# Altium footprint library Vishay Roederstein Footprints.PcbLib: 150 footprints (part 5 of 10)
Each footprint in its own frame and in the unit in brackets; x right, y up, seen from the top. Pads: shape width x height; smd on the part's side, far side on the other; paste and mask are expansions set on the pad; w line width, h text height; cw(c..) or ccw(c..) is an arc to the next point about the centre after c.
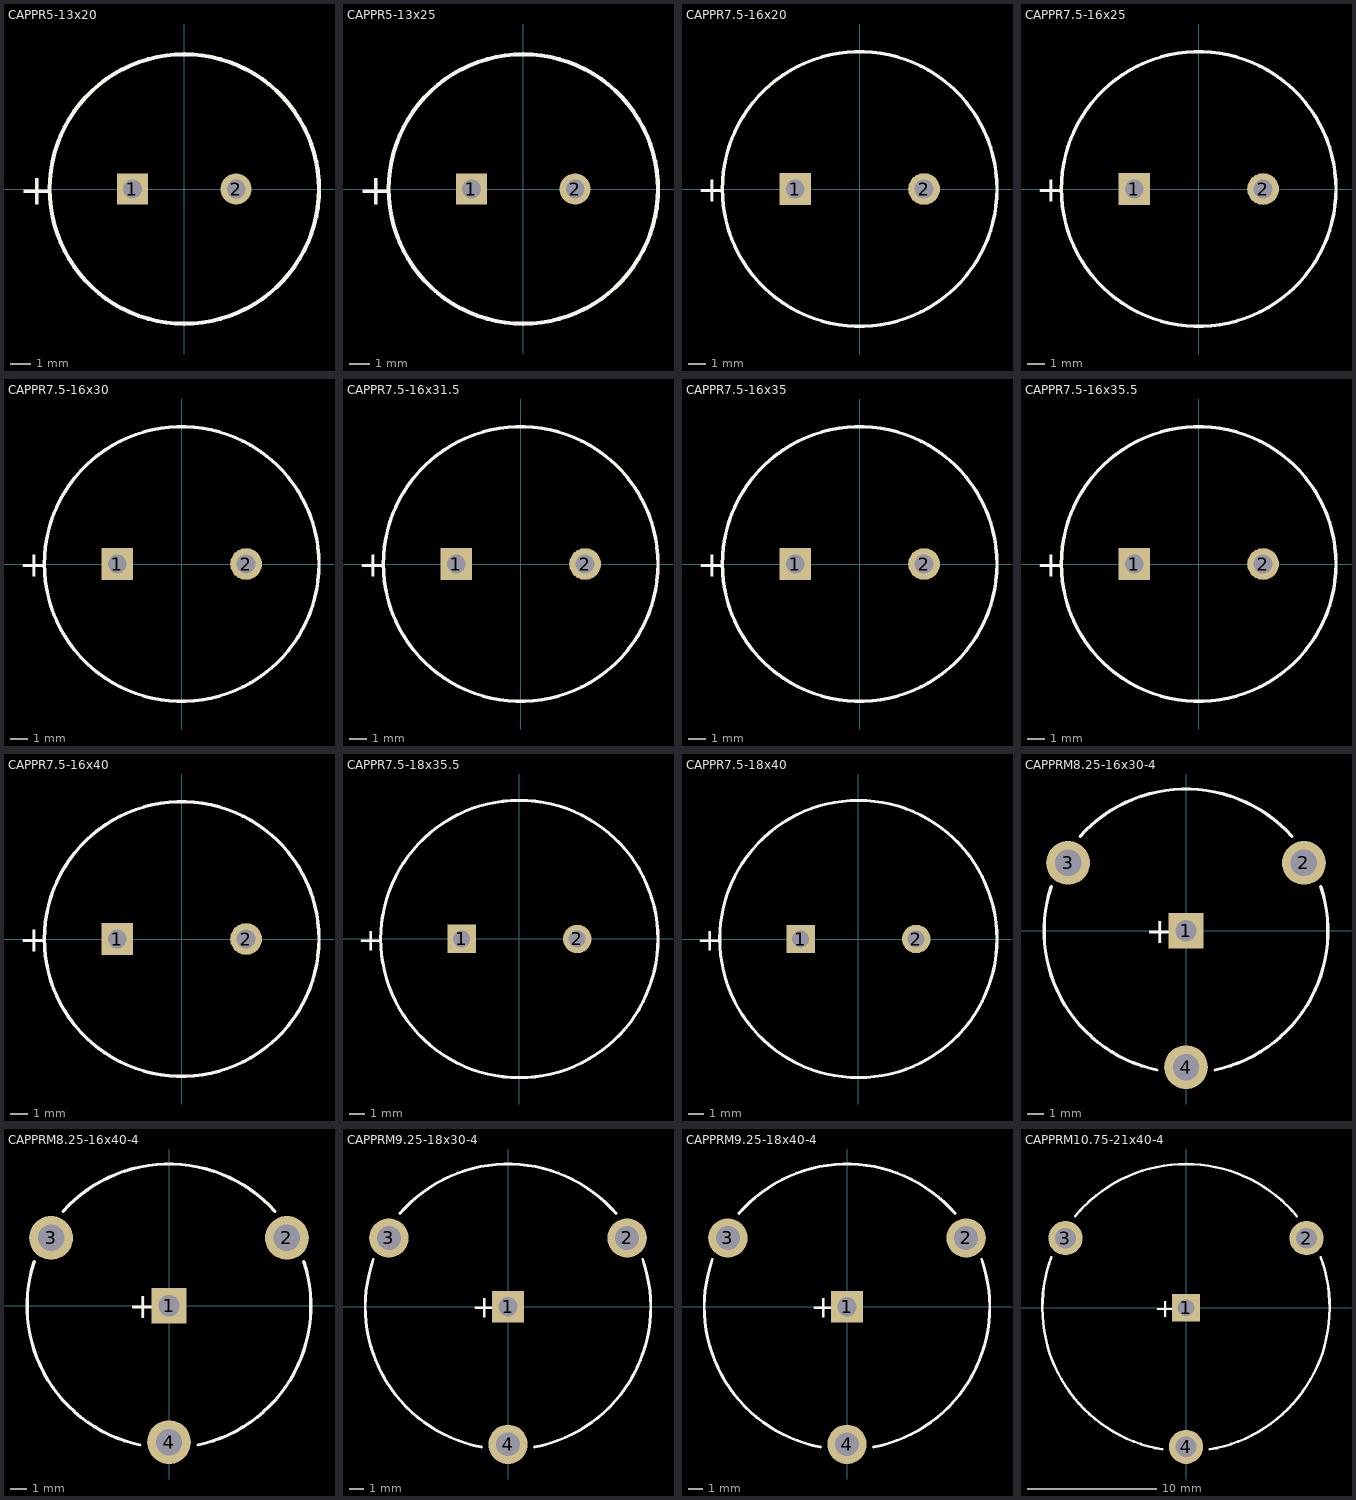
[diagram p4: the footprints below, top view; thin cyan lines are the x and y axes]

## CAPPR5-13x20 [mm] "Capacitor, Electrolytic, Radial; Body 13 x 20 mm (Dia.xH typ); Pin Spacing 5 mm (typ)"
height 22
pads (2):
  rect 1.5x1.5 hole 0.9: 1(-2.5,0)
  round 1.5 hole 0.9: 2(2.5,0)
Top Overlay:
  circle w0.2: c0,0 r6.5
  text "+" at -7.975,-0.75 h1.5

## CAPPR5-13x25 [mm] "Capacitor, Electrolytic, Radial; Body 13 x 25 mm (Dia.xH typ); Pin Spacing 5 mm (typ)"
height 27
pads (2):
  rect 1.5x1.5 hole 0.9: 1(-2.5,0)
  round 1.5 hole 0.9: 2(2.5,0)
Top Overlay:
  circle w0.2: c0,0 r6.5
  text "+" at -7.975,-0.75 h1.5

## CAPPR7.5-16x20 [mm] "Capacitor, Electrolytic, Radial; Body 16 x 20 mm (Dia.xH typ); Pin Spacing 7.5 mm (typ)"
height 21.5
pads (2):
  rect 1.85x1.85 hole 1.1: 1(-3.75,0)
  round 1.85 hole 1.1: 2(3.75,0)
Top Overlay:
  circle w0.2: c0,0 r8
  text "+" at -9.475,-0.75 h1.5

## CAPPR7.5-16x25 [mm] "Capacitor, Electrolytic, Radial; Body 16 x 25 mm (Dia.xH typ); Pin Spacing 7.5 mm (typ)"
height 27
pads (2):
  rect 1.85x1.85 hole 1.1: 1(-3.75,0)
  round 1.85 hole 1.1: 2(3.75,0)
Top Overlay:
  circle w0.2: c0,0 r8
  text "+" at -9.475,-0.75 h1.5

## CAPPR7.5-16x30 [mm] "Capacitor, Electrolytic, Radial; Body 16 x 30 mm (Dia.xH typ); Pin Spacing 7.5 mm (typ)"
height 31.5
pads (2):
  rect 1.85x1.85 hole 1.1: 1(-3.75,0)
  round 1.85 hole 1.1: 2(3.75,0)
Top Overlay:
  circle w0.2: c0,0 r8
  text "+" at -9.475,-0.75 h1.5

## CAPPR7.5-16x31.5 [mm] "Capacitor, Electrolytic, Radial; Body 16 x 31.5 mm (Dia.xH typ); Pin Spacing 7.5 mm (typ)"
height 33.5
pads (2):
  rect 1.85x1.85 hole 1.1: 1(-3.75,0)
  round 1.85 hole 1.1: 2(3.75,0)
Top Overlay:
  circle w0.2: c0,0 r8
  text "+" at -9.475,-0.75 h1.5

## CAPPR7.5-16x35 [mm] "Capacitor, Electrolytic, Radial; Body 16 x 35 mm (Dia.xH typ); Pin Spacing 7.5 mm (typ)"
height 36.5
pads (2):
  rect 1.85x1.85 hole 1.1: 1(-3.75,0)
  round 1.85 hole 1.1: 2(3.75,0)
Top Overlay:
  circle w0.2: c0,0 r8
  text "+" at -9.475,-0.75 h1.5

## CAPPR7.5-16x35.5 [mm] "Capacitor, Electrolytic, Radial; Body 16 x 35.5 mm (Dia.xH typ); Pin Spacing 7.5 mm (typ)"
height 37.5
pads (2):
  rect 1.85x1.85 hole 1.1: 1(-3.75,0)
  round 1.85 hole 1.1: 2(3.75,0)
Top Overlay:
  circle w0.2: c0,0 r8
  text "+" at -9.475,-0.75 h1.5

## CAPPR7.5-16x40 [mm] "Capacitor, Electrolytic, Radial; Body 16 x 40 mm (Dia.xH typ); Pin Spacing 7.5 mm (typ)"
height 41.5
pads (2):
  rect 1.85x1.85 hole 1.1: 1(-3.75,0)
  round 1.85 hole 1.1: 2(3.75,0)
Top Overlay:
  circle w0.2: c0,0 r8
  text "+" at -9.475,-0.75 h1.5

## CAPPR7.5-18x35.5 [mm] "Capacitor, Electrolytic, Radial; Body 18 x 35.5 mm (Dia.xH typ); Pin Spacing 7.5 mm (typ)"
height 37.5
pads (2):
  rect 1.85x1.85 hole 1.1: 1(-3.75,0)
  round 1.85 hole 1.1: 2(3.75,0)
Top Overlay:
  circle w0.2: c-0.004,-0.001 r9
  text "+" at -10.475,-0.75 h1.5

## CAPPR7.5-18x40 [mm] "Capacitor, Electrolytic, Radial; Body 18 x 40 mm (Dia.xH typ); Pin Spacing 7.5 mm (typ)"
height 42
pads (2):
  rect 1.85x1.85 hole 1.1: 1(-3.75,0)
  round 1.85 hole 1.1: 2(3.75,0)
Top Overlay:
  circle w0.2: c0,0 r9
  text "+" at -10.475,-0.75 h1.5

## CAPPRM8.25-16x30-4 [mm] "Capacitor, Electrolytic, Radial, Solder Ring; Body 16 x 30 mm (Dia.xH typ); Pin Spacing 8.25 mm (typ)"
height 32
pads (4):
  rect 2.15x2.15 hole 1.3: 1(0,0)
  round 2.65 hole 1.6: 2(7.145,4.125) 3(-7.145,4.125) 4(0,-8.25)
Top Overlay:
  lines w0.2: -8.168,2.692 ccw(c0,0) -1.752,-8.42 ; -6.415,5.727 cw(c0,0) 6.415,5.727 ; 1.752,-8.42 ccw(c0,0) 8.168,2.692
  text "+" at -2.45,-0.75 h1.5

## CAPPRM8.25-16x40-4 [mm] "Capacitor, Electrolytic, Radial, Solder Ring; Body 16 x 40 mm (Dia.xH typ); Pin Spacing 8.25 mm (typ)"
height 42
pads (4):
  rect 2.15x2.15 hole 1.3: 1(0,0)
  round 2.65 hole 1.6: 2(7.145,4.125) 3(-7.145,4.125) 4(0,-8.25)
Top Overlay:
  lines w0.2: -8.168,2.692 ccw(c0,0) -1.752,-8.42 ; -6.415,5.727 cw(c0,0) 6.415,5.727 ; 1.752,-8.42 ccw(c0,0) 8.168,2.692
  text "+" at -2.45,-0.75 h1.5

## CAPPRM9.25-18x30-4 [mm] "Capacitor, Electrolytic, Radial, Solder Ring; Body 18 x 30 mm (Dia.xH typ); Pin Spacing 9.25 mm (typ)"
height 32
pads (4):
  rect 2.15x2.15 hole 1.3: 1(0,0)
  round 2.65 hole 1.6: 2(8.011,4.625) 3(-8.011,4.625) 4(0,-9.25)
Top Overlay:
  lines w0.2: -9.062,3.17 ccw(c0,0) -1.786,-9.432 ; -7.276,6.263 cw(c0,0) 7.276,6.263 ; 1.786,-9.432 ccw(c0,0) 9.062,3.17
  text "+" at -2.45,-0.75 h1.5

## CAPPRM9.25-18x40-4 [mm] "Capacitor, Electrolytic, Radial, Solder Ring; Body 18 x 40 mm (Dia.xH typ); Pin Spacing 9.25 mm (typ)"
height 42
pads (4):
  rect 2.15x2.15 hole 1.3: 1(0,0)
  round 2.65 hole 1.6: 2(8.011,4.625) 3(-8.011,4.625) 4(0,-9.25)
Top Overlay:
  lines w0.2: -9.062,3.17 ccw(c0,0) -1.786,-9.432 ; -7.276,6.263 cw(c0,0) 7.276,6.263 ; 1.786,-9.432 ccw(c0,0) 9.062,3.17
  text "+" at -2.45,-0.75 h1.5

## CAPPRM10.75-21x40-4 [mm] "Capacitor, Electrolytic, Radial, Solder Ring; Body 21 x 40 mm (Dia.xH typ); Pin Spacing 10.75 mm (typ)"
height 42
pads (4):
  rect 2.15x2.15 hole 1.3: 1(0,0)
  round 2.65 hole 1.6: 2(9.31,5.375) 3(-9.31,5.375) 4(0,-10.75)
Top Overlay:
  lines w0.2: -10.398,3.883 ccw(c0,0) -1.836,-10.947 ; -8.562,7.064 cw(c0,0) 8.562,7.064 ; 1.836,-10.947 ccw(c0,0) 10.398,3.883
  text "+" at -2.45,-0.75 h1.5